# Altium schematic symbol library JST SH connector.SchLib: 15 symbols
Pins are listed as number, name and electrical type; pins without a type are passive.

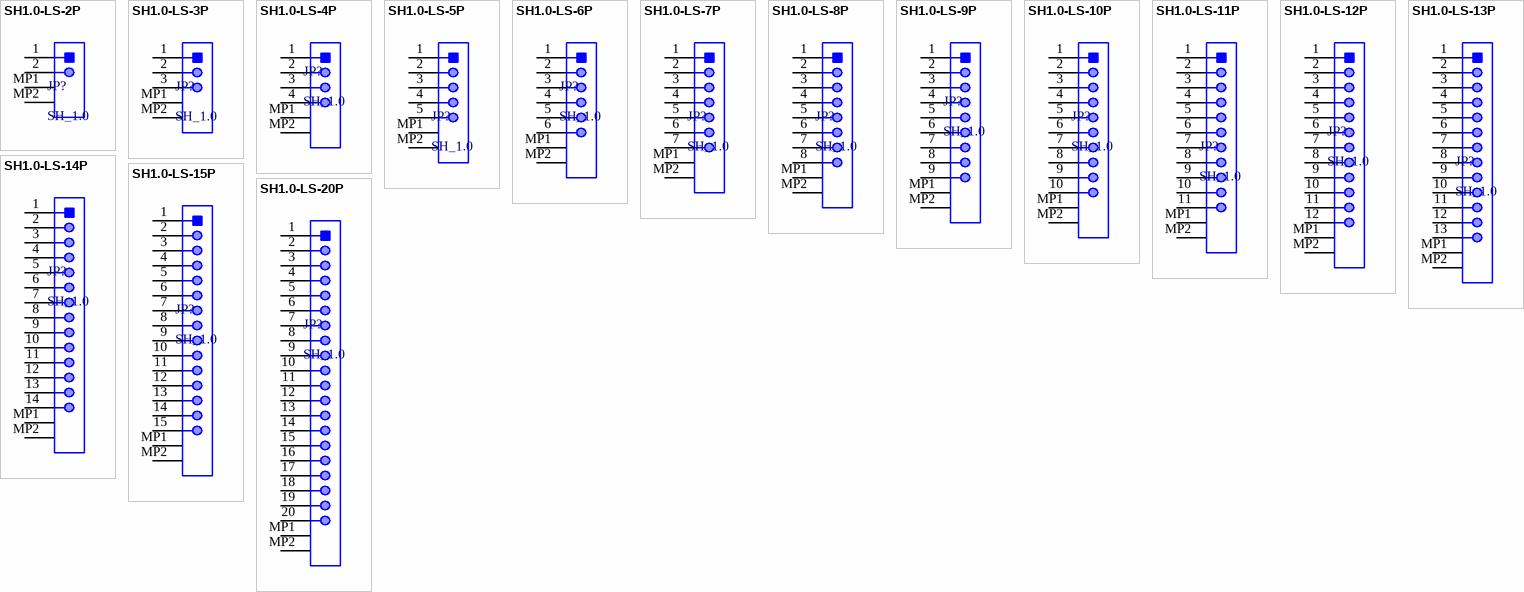
[diagram p0: symbols SH1.0-LS-2P to SH1.0-LS-20P]

## SH1.0-LS-2P
designator JP?, comment SH_1.0
SH CONNECTOR 1.0 mm pitch/Disconnectable Crimp style connectors 1 x 2 Position
footprint SH1.0-LS-2P
footprint SH1.0-WS-2P
pins: 1, 2, MP1, MP2

## SH1.0-LS-3P
designator JP?, comment SH_1.0
SH CONNECTOR 1.0 mm pitch/Disconnectable Crimp style connectors 1 x 3 Position
footprint SH1.0-LS-3P
footprint SH1.0-WS-3P
pins: 1, 2, 3, MP1, MP2

## SH1.0-LS-4P
designator JP?, comment SH_1.0
SH CONNECTOR 1.0 mm pitch/Disconnectable Crimp style connectors 1 x 4 Position
footprint SH1.0-LS-4P
footprint SH1.0-WS-4P
pins: 1, 2, 3, 4, MP1, MP2

## SH1.0-LS-5P
designator JP?, comment SH_1.0
SH CONNECTOR 1.0 mm pitch/Disconnectable Crimp style connectors 1 x 5 Position
footprint SH1.0-LS-5P
footprint SH1.0-WS-5P
pins: 1, 2, 3, 4, 5, MP1, MP2

## SH1.0-LS-6P
designator JP?, comment SH_1.0
SH CONNECTOR 1.0 mm pitch/Disconnectable Crimp style connectors 1 x 6 Position
footprint SH1.0-LS-6P
footprint SH1.0-WS-6P
pins: 1, 2, 3, 4, 5, 6, MP1, MP2

## SH1.0-LS-7P
designator JP?, comment SH_1.0
SH CONNECTOR 1.0 mm pitch/Disconnectable Crimp style connectors 1 x 7 Position
footprint SH1.0-LS-7P
footprint SH1.0-WS-7P
pins: 1, 2, 3, 4, 5, 6, 7, MP1, MP2

## SH1.0-LS-8P
designator JP?, comment SH_1.0
SH CONNECTOR 1.0 mm pitch/Disconnectable Crimp style connectors 1 x 8 Position
footprint SH1.0-LS-8P
footprint SH1.0-WS-8P
pins: 1, 2, 3, 4, 5, 6, 7, 8, MP1, MP2

## SH1.0-LS-9P
designator JP?, comment SH_1.0
SH CONNECTOR 1.0 mm pitch/Disconnectable Crimp style connectors 1 x 9 Position
footprint SH1.0-LS-9P
footprint SH1.0-WS-9P
pins: 1, 2, 3, 4, 5, 6, 7, 8, 9, MP1, MP2

## SH1.0-LS-10P
designator JP?, comment SH_1.0
SH CONNECTOR 1.0 mm pitch/Disconnectable Crimp style connectors 1 x 10 Position
footprint SH1.0-LS-10P
footprint SH1.0-WS-10P
pins: 1, 2, 3, 4, 5, 6, 7, 8, 9, 10, MP1, MP2

## SH1.0-LS-11P
designator JP?, comment SH_1.0
SH CONNECTOR 1.0 mm pitch/Disconnectable Crimp style connectors 1 x 11 Position
footprint SH1.0-LS-11P
footprint SH1.0-WS-11P
pins: 1, 2, 3, 4, 5, 6, 7, 8, 9, 10, 11, MP1, MP2

## SH1.0-LS-12P
designator JP?, comment SH_1.0
SH CONNECTOR 1.0 mm pitch/Disconnectable Crimp style connectors 1 x 12 Position
footprint SH1.0-WS-12P
footprint SH1.0-LS-12P
pins: 1, 2, 3, 4, 5, 6, 7, 8, 9, 10, 11, 12, MP1, MP2

## SH1.0-LS-13P
designator JP?, comment SH_1.0
SH CONNECTOR 1.0 mm pitch/Disconnectable Crimp style connectors 1 x 13 Position
footprint SH1.0-LS-13P
footprint SH1.0-WS-13P
pins: 1, 2, 3, 4, 5, 6, 7, 8, 9, 10, 11, 12, 13, MP1, MP2

## SH1.0-LS-14P
designator JP?, comment SH_1.0
SH CONNECTOR 1.0 mm pitch/Disconnectable Crimp style connectors 1 x 14 Position
footprint SH1.0-LS-14P
footprint SH1.0-WS-14P
pins: 1, 2, 3, 4, 5, 6, 7, 8, 9, 10, 11, 12, 13, 14, MP1, MP2

## SH1.0-LS-15P
designator JP?, comment SH_1.0
SH CONNECTOR 1.0 mm pitch/Disconnectable Crimp style connectors 1 x 15 Position
footprint SH1.0-LS-15P
footprint SH1.0-WS-15P
pins: 1, 2, 3, 4, 5, 6, 7, 8, 9, 10, 11, 12, 13, 14, 15, MP1, MP2

## SH1.0-LS-20P
designator JP?, comment SH_1.0
SH CONNECTOR 1.0 mm pitch/Disconnectable Crimp style connectors 1 x 20 Position
footprint SH1.0-LS-20P
pins: 1, 2, 3, 4, 5, 6, 7, 8, 9, 10, 11, 12, 13, 14, 15, 16, 17, 18, 19, 20, MP1, MP2